# EAGLE library part ADXL203 (library adxl103_203e)
Analog devices ADXL203 +/- 1,7 g dual axis precision accelerometer
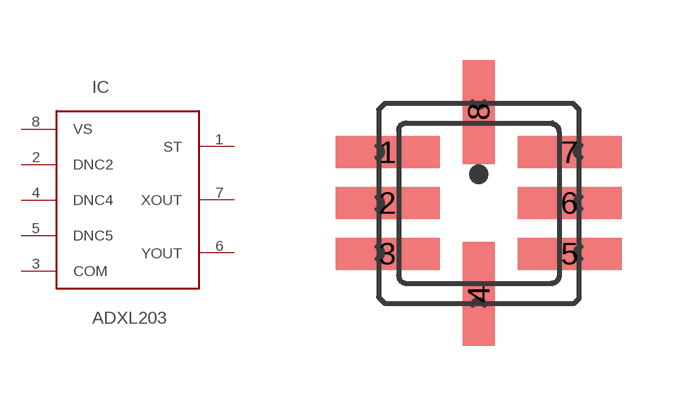
[diagram p2: symbol with the pads of LCC8; footprint LCC8]

Designator prefix IC

## ADXL203  [LCC8]
1  ST  in
2  DNC2  nc
3  COM  pwr
4  DNC4  nc
5  DNC5  nc
6  YOUT  out
7  XOUT  out
8  VS  pwr

## Footprint LCC8 (pad centres in mm)
8 - Terminal Ceramic Leadless Chip Carrier (LCC)
smd 2.6 x 0.8: 1 -2.28,1.27; 2 -2.28,0; 3 -2.28,-1.27; 5 2.27,-1.27; 6 2.27,0; 7 2.27,1.27
smd 0.8 x 2.6: 4 0,-2.28; 8 0,2.28